# Altium footprint library Display.PcbLib: 5 footprints
Each footprint in its own frame and in the unit in brackets; x right, y up, seen from the top. Pads: shape width x height; smd on the part's side, far side on the other; paste and mask are expansions set on the pad; w line width, h text height; cw(c..) or ccw(c..) is an arc to the next point about the centre after c.
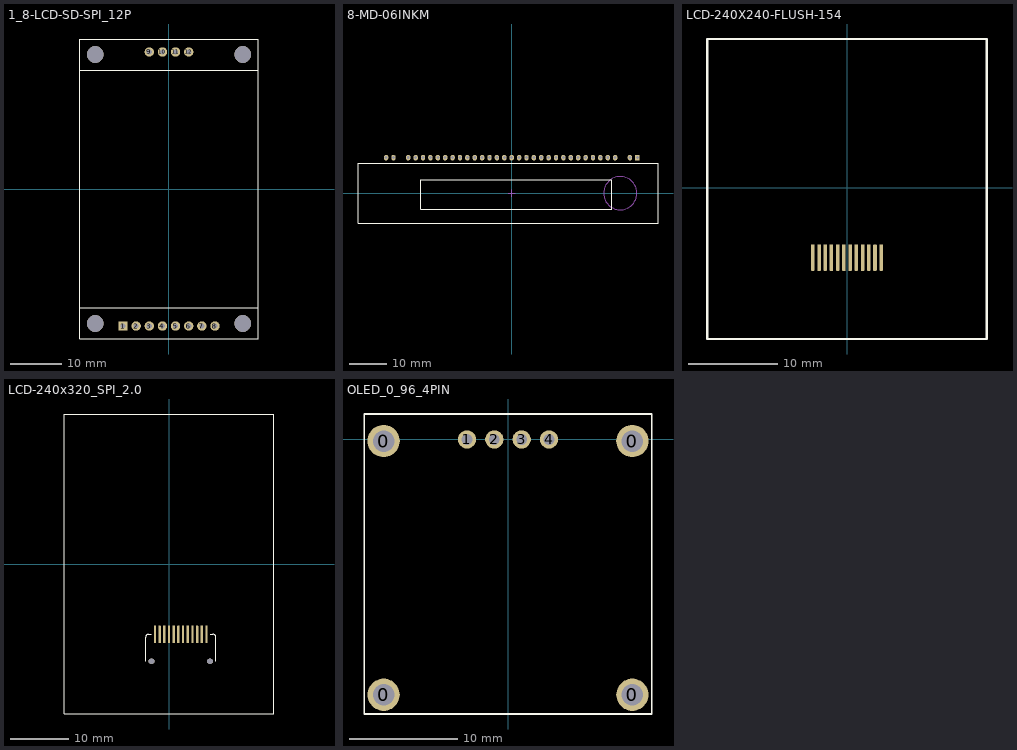
[diagram p0: the footprints below, top view; thin cyan lines are the x and y axes]

## 1_8-LCD-SD-SPI_12P [mm]
pads (12):
  rect 1.8x1.8 hole 1: 1(-8.89,-26.5)
  round 1.8 hole 1: 2(-6.35,-26.5) 3(-3.81,-26.5) 4(-1.27,-26.5) 5(1.27,-26.5) 6(3.81,-26.5) 7(6.35,-26.5) 8(8.89,-26.5) 9(-3.81,26.5) 10(-1.27,26.5) 11(1.27,26.5) 12(3.81,26.5)
via -14.25,26 diameter 3.2 hole 3.2
via 14.25,26 diameter 3.2 hole 3.2
via 14.25,-26 diameter 3.2 hole 3.2
via -14.25,-26 diameter 3.2 hole 3.2
Top Overlay:
  lines w0.127: -17.25,-23 17.25,-23 ; -17.25,23 17.25,23 ; -17.25,-29 17.25,-29 17.25,29 -17.25,29 -17.25,-29

## 8-MD-06INKM [mm]
pads (33):
  rect 1.2x1.5 hole 0.8: 1(34,9.6)
  oval 1.2x1.5 hole 0.8: 2(32,9.6) 4(28,9.6) 5(26,9.6) 6(24,9.6) 7(22,9.6) 8(20,9.6) 9(18,9.6) 10(16,9.6) 11(14,9.6) 12(12,9.6) 13(10,9.6) 14(8,9.6) 15(6,9.6) 16(4,9.6) 17(2,9.6) 18(0,9.6) 19(-2,9.6) 20(-4,9.6) 21(-6,9.6) 22(-8,9.6) 23(-10,9.6) 24(-12,9.6) 25(-14,9.6) 26(-16,9.6) 27(-18,9.6) 28(-20,9.6) 29(-22,9.6) 30(-24,9.6) 31(-26,9.6) 32(-28,9.6) 34(-32,9.6) 35(-34,9.6)
Top Overlay:
  lines w0.152: -41.6,-8.1 -41.6,8.1 -1,8.1 39.6,8.1 39.6,-8.1 -41.6,-8.1 ; -24.6,-4.4 27.1,-4.4 27.1,3.6 -24.6,3.6 -24.6,-4.4
Mechanical 15:
  circle w0.152: c29.4,0 r4.5
  lines w0.152: -0.95,0 0.95,0 ; 0,-0.95 0,0.95

## LCD-240X240-FLUSH-154 [mm]
height 0.8
pads (12):
  rrect50% 0.4x3 smd: 1(3.851,-7.85) 2(3.151,-7.85) 3(2.451,-7.85) 4(1.751,-7.85) 5(1.051,-7.85) 6(0.351,-7.85) 7(-0.349,-7.85) 8(-1.049,-7.85) 9(-1.749,-7.85) 10(-2.449,-7.85) 11(-3.149,-7.85) 12(-3.849,-7.85)
Top Overlay:
  lines w0.254: -15.748,-17.018 15.748,-17.018 15.748,16.764 -15.748,16.764 -15.748,-17.018
3D body "1.54 TFT IPS - 12P - Flat Flush Mount.stp": height -0.37, standoff -1.9, extent -15.697,-17.018 15.697,16.764

## LCD-240x320_SPI_2.0 [mm]
pads (12):
  rrect50% 0.4x3 smd: 1(6.4,-12) 2(5.6,-12) 3(4.8,-12) 4(4,-12) 5(3.2,-12) 6(2.4,-12) 7(1.6,-12) 8(0.8,-12) 9(0,-12) 10(-0.8,-12) 11(-1.6,-12) 12(-2.4,-12)
via -3,-16.6 diameter 1 hole 1
via 7,-16.6 diameter 1 hole 1
Top Overlay:
  lines w0.152: -4,-16.6 -4,-12.5 cw(c-3.5,-12.5) -3.5,-12 -3,-12 ; 7,-12 7.5,-12 cw(c7.5,-12.5) 8,-12.5 8,-16.6 ; -17.85,-25.6 17.85,-25.6 17.85,25.6 -17.85,25.6 -17.85,-25.6
3D body "screen240x320.stp": height 2.2, standoff 0, extent -17.85,-25.6 17.85,25.6

## OLED_0_96_4PIN [mm]
pads (8):
  round 3 hole 2: 0(-11.55,-23.71) 0(-11.55,-0.15) 0(11.55,-23.71) 0(11.55,-0.15)
  round 1.7 hole 1: 1(-3.81,0) 2(-1.27,0) 3(1.27,0) 4(3.81,0)
Top Overlay:
  lines w0.152: -13.35,-25.498 13.35,-25.498 13.35,2.362 -13.35,2.362 -13.35,-25.498
3D body "User Library-128x64I2COLEDDisplayAdafruit.STEP": height 11.47, standoff 0.63, extent -13.35,-25.498 13.35,2.362